# Altium schematic symbol library Test_Points.SchLib: 1 symbol
Pins are listed as number, name and electrical type; pins without a type are passive.

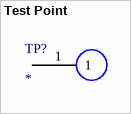
[diagram p0: symbol Test Point]

## Test Point
designator TP?
Test Point
footprint .75mm TP (.75 mm Test Point)
footprint 1.5mm TP (1.5mm Test Point)
footprint 2mm TP (2mm Test Point)
footprint 1mm TP (1mm Test Point)
pins: 1